# EAGLE library part NUCLEO-F429ZI_ZIO (library nucleo)
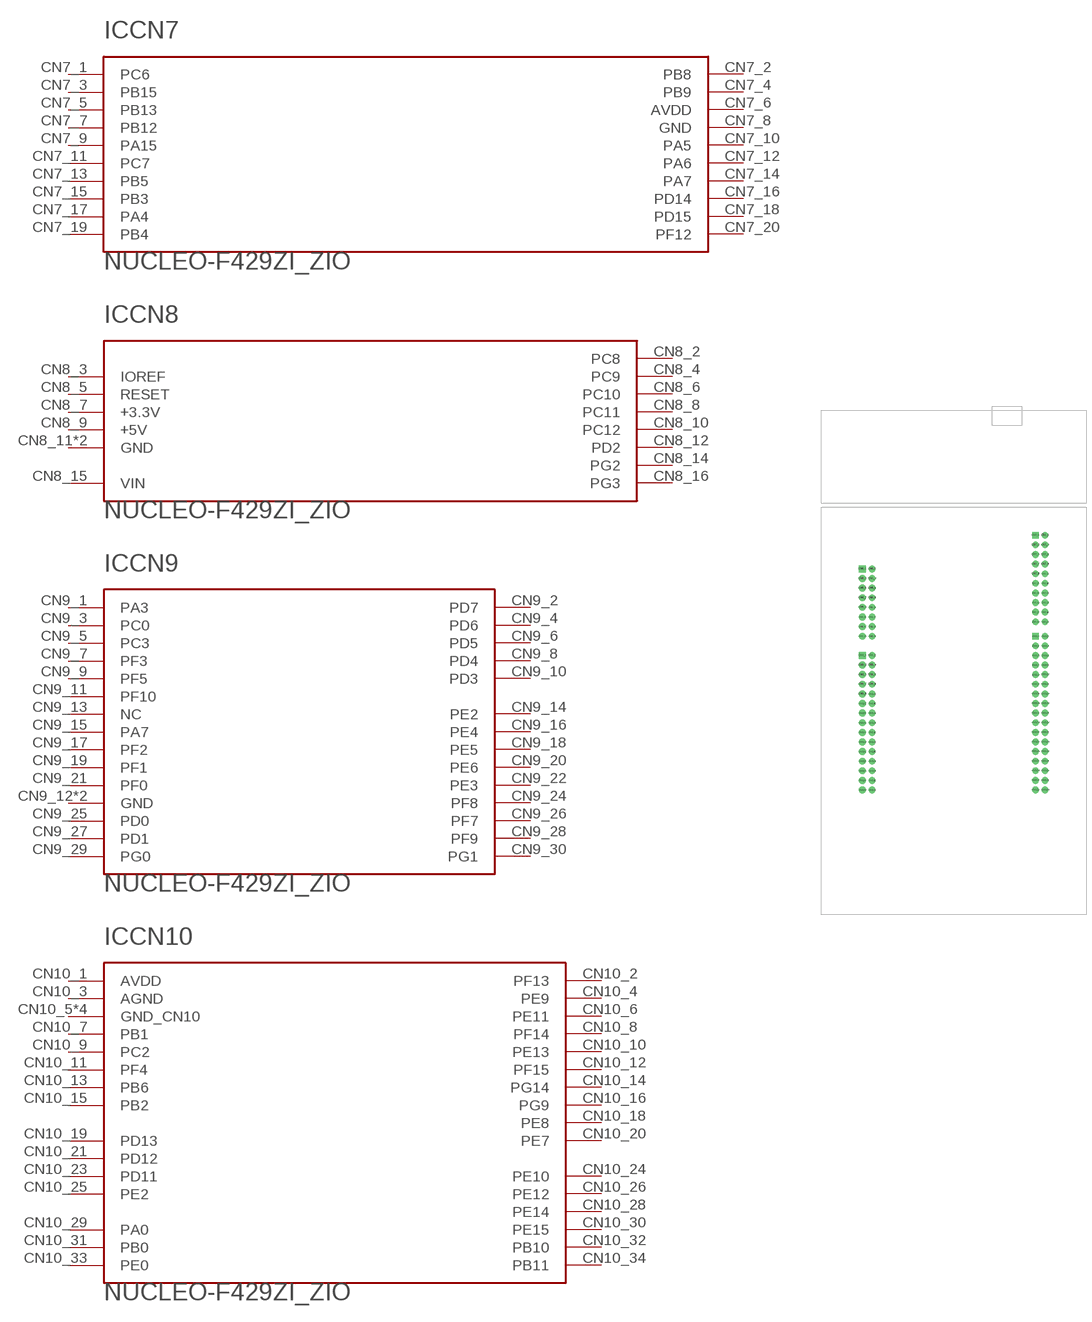
[diagram p3: symbol with the pads of MODULE_NUCLEO-F429ZI_ZIO; footprint MODULE_NUCLEO-F429ZI_ZIO]

Designator prefix IC; gates CN7=NUCLEO-F429ZI_SECTION1 CN8=NUCLEO-F429ZI_SECTION2 CN9=NUCLEO-F429ZI_SECTION3 CN10=NUCLEO-F429ZI_SECTION4

## NUCLEO-F429ZI_ZIO  [MODULE_NUCLEO-F429ZI_ZIO]
CN7_1  CN7:PC6  pas
CN7_2  CN7:PB8  pas
CN7_3  CN7:PB15  pas
CN7_4  CN7:PB9  pas
CN7_5  CN7:PB13  pas
CN7_6  CN7:AVDD  pas
CN7_7  CN7:PB12  pas
CN7_8  CN7:GND  pas
CN7_9  CN7:PA15  pas
CN7_10  CN7:PA5  pas
CN7_11  CN7:PC7  pas
CN7_12  CN7:PA6  pas
CN7_13  CN7:PB5  pas
CN7_14  CN7:PA7  pas
CN7_15  CN7:PB3  pas
CN7_16  CN7:PD14  pas
CN7_17  CN7:PA4  pas
CN7_18  CN7:PD15  pas
CN7_19  CN7:PB4  pas
CN7_20  CN7:PF12  pas
CN8_2  CN8:PC8  pas
CN8_3  CN8:IOREF  pas
CN8_4  CN8:PC9  pas
CN8_5  CN8:RESET  pas
CN8_6  CN8:PC10  pas
CN8_7  CN8:+3.3V  pas
CN8_8  CN8:PC11  pas
CN8_9  CN8:+5V  pas
CN8_10  CN8:PC12  pas
CN8_11  CN8:GND  pas
CN8_12  CN8:PD2  pas
CN8_13  CN8:GND  pas
CN8_14  CN8:PG2  pas
CN8_15  CN8:VIN  pas
CN8_16  CN8:PG3  pas
CN9_1  CN9:PA3  pas
CN9_2  CN9:PD7  pas
CN9_3  CN9:PC0  pas
CN9_4  CN9:PD6  pas
CN9_5  CN9:PC3  pas
CN9_6  CN9:PD5  pas
CN9_7  CN9:PF3  pas
CN9_8  CN9:PD4  pas
CN9_9  CN9:PF5  pas
CN9_10  CN9:PD3  pas
CN9_11  CN9:PF10  pas
CN9_12  CN9:GND  pas
CN9_13  CN9:NC  pas
CN9_14  CN9:PE2  pas
CN9_15  CN9:PA7  pas
CN9_16  CN9:PE4  pas
CN9_17  CN9:PF2  pas
CN9_18  CN9:PE5  pas
CN9_19  CN9:PF1  pas
CN9_20  CN9:PE6  pas
CN9_21  CN9:PF0  pas
CN9_22  CN9:PE3  pas
CN9_23  CN9:GND  pas
CN9_24  CN9:PF8  pas
CN9_25  CN9:PD0  pas
CN9_26  CN9:PF7  pas
CN9_27  CN9:PD1  pas
CN9_28  CN9:PF9  pas
CN9_29  CN9:PG0  pas
CN9_30  CN9:PG1  pas
CN10_1  CN10:AVDD  pas
CN10_2  CN10:PF13  pas
CN10_3  CN10:AGND  pas
CN10_4  CN10:PE9  pas
CN10_5  CN10:GND_CN10  pas
CN10_6  CN10:PE11  pas
CN10_7  CN10:PB1  pas
CN10_8  CN10:PF14  pas
CN10_9  CN10:PC2  pas
CN10_10  CN10:PE13  pas
CN10_11  CN10:PF4  pas
CN10_12  CN10:PF15  pas
CN10_13  CN10:PB6  pas
CN10_14  CN10:PG14  pas
CN10_15  CN10:PB2  pas
CN10_16  CN10:PG9  pas
CN10_17  CN10:GND_CN10  pas
CN10_18  CN10:PE8  pas
CN10_19  CN10:PD13  pas
CN10_20  CN10:PE7  pas
CN10_21  CN10:PD12  pas
CN10_22  CN10:GND_CN10  pas
CN10_23  CN10:PD11  pas
CN10_24  CN10:PE10  pas
CN10_25  CN10:PE2  pas
CN10_26  CN10:PE12  pas
CN10_27  CN10:GND_CN10  pas
CN10_28  CN10:PE14  pas
CN10_29  CN10:PA0  pas
CN10_30  CN10:PE15  pas
CN10_31  CN10:PB0  pas
CN10_32  CN10:PB10  pas
CN10_33  CN10:PE0  pas
CN10_34  CN10:PB11  pas

## Footprint MODULE_NUCLEO-F429ZI_ZIO (pad centres in mm)
drill 1 pad 1.8 square: CN7_1 21.59,43.82; CN8_1 -24.13,34.93; CN9_1 -24.13,12.07; CN10_1 21.59,17.15
drill 1 pad 1.8: CN7_2 24.13,43.82; CN7_3 21.59,41.28; CN7_4 24.13,41.28; CN7_5 21.59,38.74; CN7_6 24.13,38.74; CN7_7 21.59,36.2; CN7_8 24.13,36.2; CN7_9 21.59,33.66; CN7_10 24.13,33.66; CN7_11 21.59,31.12; CN7_12 24.13,31.12; CN7_13 21.59,28.58; CN7_14 24.13,28.58; CN7_15 21.59,26.04; CN7_16 24.13,26.04; CN7_17 21.59,23.5; CN7_18 24.13,23.5; CN7_19 21.59,20.96; CN7_20 24.13,20.96; CN8_2 -21.59,34.93; CN8_3 -24.13,32.39; CN8_4 -21.59,32.39; CN8_5 -24.13,29.85; CN8_6 -21.59,29.85; CN8_7 -24.13,27.31; CN8_8 -21.59,27.31; CN8_9 -24.13,24.77; CN8_10 -21.59,24.77; CN8_11 -24.13,22.23; CN8_12 -21.59,22.23; CN8_13 -24.13,19.69; CN8_14 -21.59,19.69; CN8_15 -24.13,17.15; CN8_16 -21.59,17.15; CN9_2 -21.59,12.07; CN9_3 -24.13,9.53; CN9_4 -21.59,9.53; CN9_5 -24.13,6.99; CN9_6 -21.59,6.99; CN9_7 -24.13,4.45; CN9_8 -21.59,4.45; CN9_9 -24.13,1.91; CN9_10 -21.59,1.91; CN9_11 -24.13,-0.63; CN9_12 -21.59,-0.63; CN9_13 -24.13,-3.17; CN9_14 -21.59,-3.17; CN9_15 -24.13,-5.71; CN9_16 -21.59,-5.71; CN9_17 -24.13,-8.25; CN9_18 -21.59,-8.25; CN9_19 -24.13,-10.79; CN9_20 -21.59,-10.79; CN9_21 -24.13,-13.33; CN9_22 -21.59,-13.33; CN9_23 -24.13,-15.87; CN9_24 -21.59,-15.87; CN9_25 -24.13,-18.41; CN9_26 -21.59,-18.41; CN9_27 -24.13,-20.95; CN9_28 -21.59,-20.95; CN9_29 -24.13,-23.49; CN9_30 -21.59,-23.49; CN10_2 24.13,17.15; CN10_3 21.59,14.61; CN10_4 24.13,14.61; CN10_5 21.59,12.07; CN10_6 24.13,12.07; CN10_7 21.59,9.53; CN10_8 24.13,9.53; CN10_9 21.59,6.99; CN10_10 24.13,6.99; CN10_11 21.59,4.45; CN10_12 24.13,4.45; CN10_13 21.59,1.91; CN10_14 24.13,1.91; CN10_15 21.59,-0.63; CN10_16 24.13,-0.63; CN10_17 21.59,-3.17; CN10_18 24.13,-3.17; CN10_19 21.59,-5.71; CN10_20 24.13,-5.71; CN10_21 21.59,-8.25; CN10_22 24.13,-8.25; CN10_23 21.59,-10.79; CN10_24 24.13,-10.79; CN10_25 21.59,-13.33; CN10_26 24.13,-13.33; CN10_27 21.59,-15.87; CN10_28 24.13,-15.87; CN10_29 21.59,-18.41; CN10_30 24.13,-18.41; CN10_31 21.59,-20.95; CN10_32 24.13,-20.95; CN10_33 21.59,-23.49; CN10_34 24.13,-23.49